# EAGLE library part LAZURITE_SHIELD (library lazurite)
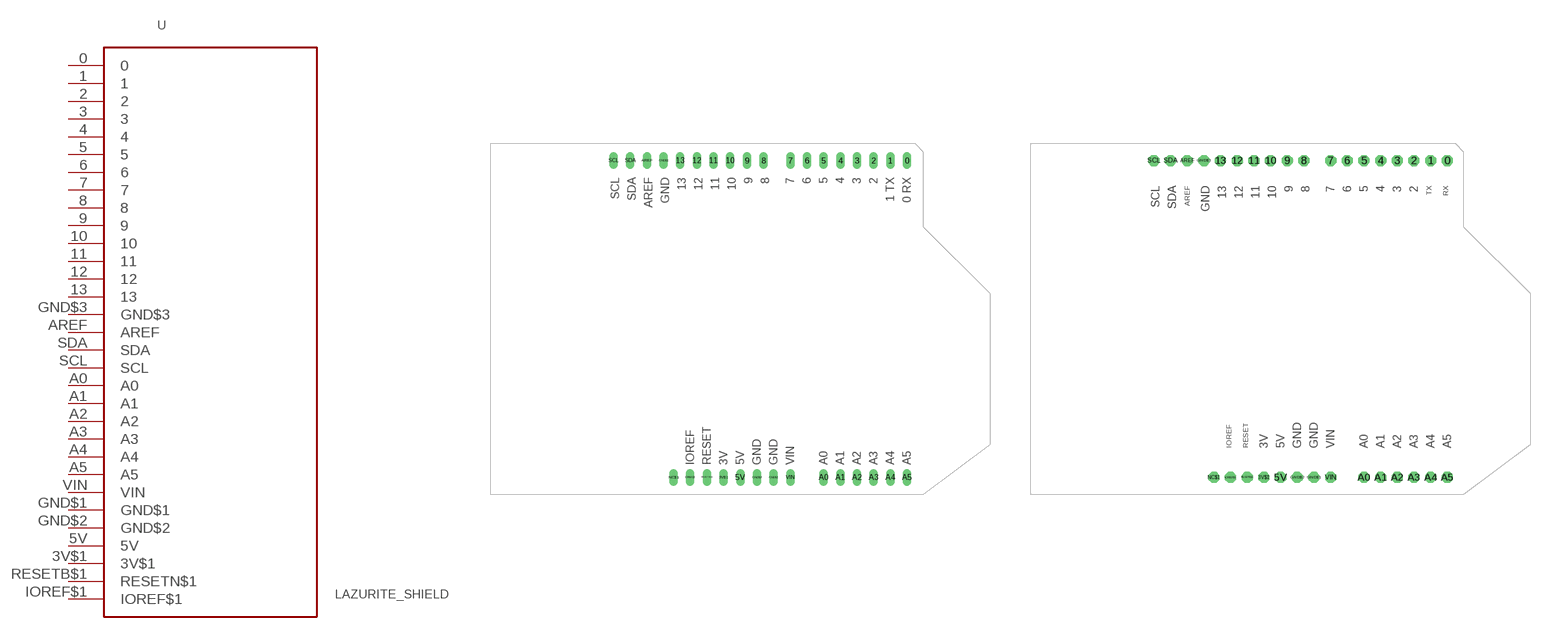
[diagram p9: symbol with the pads of LAZURITE_SHIELD; footprints LAZURITE_SHIELD, LAZURITE_SHIELD2]

Designator prefix -

## LAZURITE_SHIELD  [LAZURITE_SHIELD]
0  0
1  1
2  2
3  3
3V$1  3V$1  pwr
4  4
5  5
5V  5V  pwr
6  6
7  7
8  8
9  9
10  10
11  11
12  12
13  13
A0  A0
A1  A1
A2  A2
A3  A3
A4  A4
A5  A5
AREF  AREF  pwr
GND$1  GND$1  pwr
GND$2  GND$2  pwr
GND$3  GND$3  pwr
IOREF$1  IOREF$1
RESETB$1  RESETN$1
SCL  SCL
SDA  SDA
VIN  VIN  pwr

## LAZURITE_SHIELDROUND_PAD  [LAZURITE_SHIELD2]
Pads as for LAZURITE_SHIELD

## Footprint LAZURITE_SHIELD (pad centres in mm)
drill 0.8 long: 0 63.5,50.8; 1 60.96,50.8; 2 58.42,50.8; 3 55.88,50.8; 3V$1 35.56,2.54; 4 53.34,50.8; 5 50.8,50.8; 5V 38.1,2.54; 6 48.26,50.8; 7 45.72,50.8; 8 41.656,50.8; 9 39.116,50.8; 10 36.576,50.8; 11 34.036,50.8; 12 31.496,50.8; 13 28.956,50.8; A0 50.8,2.54; A1 53.34,2.54; A2 55.88,2.54; A3 58.42,2.54; A4 60.96,2.54; A5 63.5,2.54; AREF 23.876,50.8; GND$1 43.18,2.54; GND$2 40.64,2.54; GND$3 26.416,50.8; IOREF$1 30.48,2.54; NC$1 27.94,2.54; RESETB$1 33.02,2.54; SCL 18.796,50.8; SDA 21.336,50.8; VIN 45.72,2.54

## Footprint LAZURITE_SHIELD2 (pad centres in mm)
drill 1.016 pad 1.676 octagon: 0 63.5,50.8; 1 60.96,50.8; 2 58.42,50.8; 3 55.88,50.8; 3V$1 35.56,2.54; 4 53.34,50.8; 5 50.8,50.8; 5V 38.1,2.54; 6 48.26,50.8; 7 45.72,50.8; 8 41.656,50.8; 9 39.116,50.8; 10 36.576,50.8; 11 34.036,50.8; 12 31.496,50.8; 13 28.956,50.8; A0 50.8,2.54; A1 53.34,2.54; A2 55.88,2.54; A3 58.42,2.54; A4 60.96,2.54; A5 63.5,2.54; AREF 23.876,50.8; GND$1 43.18,2.54; GND$2 40.64,2.54; GND$3 26.416,50.8; IOREF$1 30.48,2.54; NC$1 27.94,2.54; RESETB$1 33.02,2.54; SCL 18.796,50.8; SDA 21.336,50.8; VIN 45.72,2.54